# Altium footprint library Others.PcbLib: 19 footprints (part 1 of 2)
Each footprint in its own frame and in the unit in brackets; x right, y up, seen from the top. Pads: shape width x height; smd on the part's side, far side on the other; paste and mask are expansions set on the pad; w line width, h text height; cw(c..) or ccw(c..) is an arc to the next point about the centre after c.
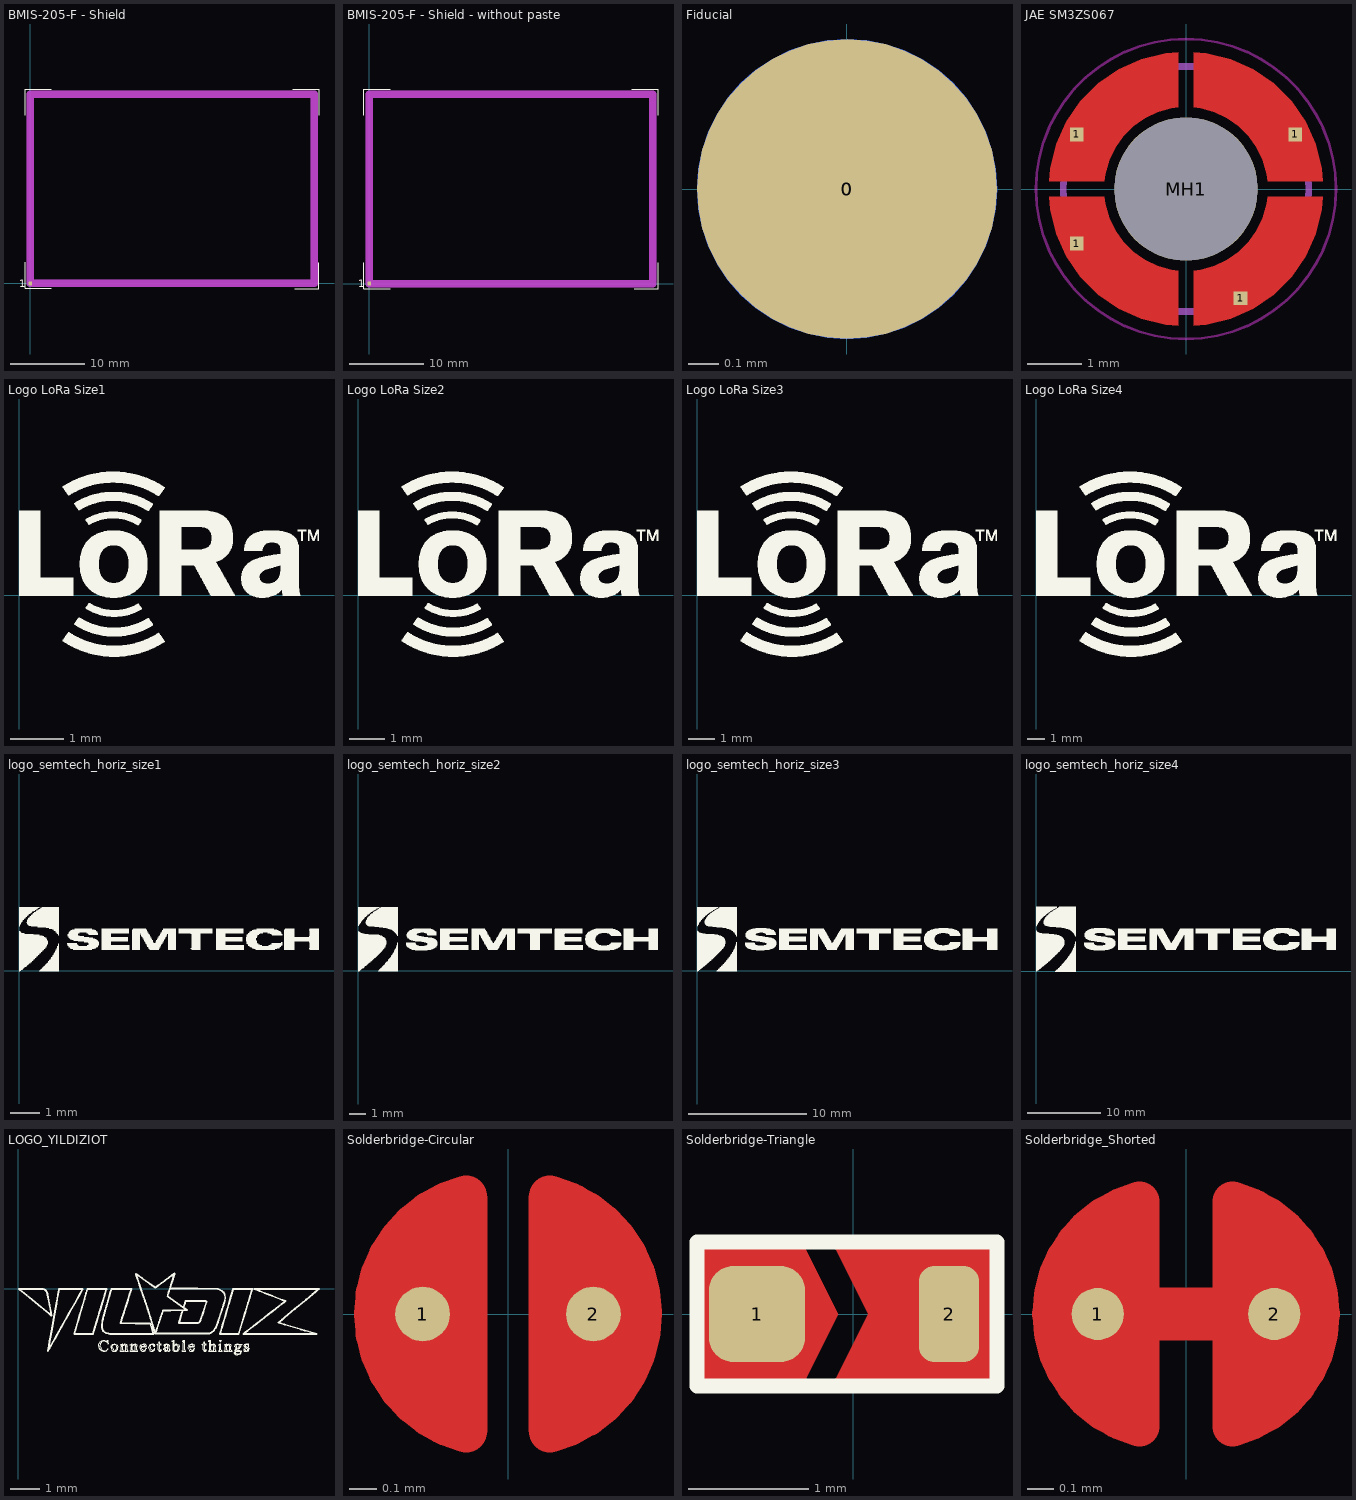
[diagram p0: the footprints below, top view; thin cyan lines are the x and y axes]

## BMIS-205-F - Shield [mm] "BMIS-205-F EMI Gasket - Standard Surface Mount Shields -  Laird Technologies"
height 6.5
pads (1):
  rect 0.5x0.5 smd paste-1 mask+0.05: 1(0,0)
Top Overlay:
  lines w0.1: -0.65,2.85 -0.65,-0.65 2.85,-0.65 ; -0.65,22.55 -0.65,26.05 2.85,26.05 ; 35.25,26.05 38.75,26.05 38.75,22.55 ; 35.5,-0.7 38.7,-0.7 38.7,2.8
  text "1" at -1.5,-0.5 h1
Top Paste:
  region: 20.65,-0.4 17.35,-0.4 17.35,0.6 20.65,0.6
  region: 32.65,-0.4 29.35,-0.4 29.35,0.6 32.65,0.6
  region: 26.65,-0.4 23.35,-0.4 23.35,0.6 26.65,0.6
  region: 14.65,-0.4 11.35,-0.4 11.35,0.6 14.65,0.6
  region: 8.65,-0.4 5.35,-0.4 5.35,0.6 8.65,0.6
  region: 38.4,-0.4 35.35,-0.4 35.35,0.6 38.4,0.6
  region: 2.65,-0.4 -0.4,-0.4 -0.4,0.6 2.65,0.6
  region: 2.65,24.8 -0.4,24.8 -0.4,25.8 2.65,25.8
  region: 38.4,24.8 35.35,24.8 35.35,25.8 38.4,25.8
  region: 8.65,24.8 5.35,24.8 5.35,25.8 8.65,25.8
  region: 14.65,24.8 11.35,24.8 11.35,25.8 14.65,25.8
  region: 26.65,24.8 23.35,24.8 23.35,25.8 26.65,25.8
  region: 32.65,24.8 29.35,24.8 29.35,25.8 32.65,25.8
  region: 20.65,24.8 17.35,24.8 17.35,25.8 20.65,25.8
  region: -0.4,22.7 -0.4,25.8 0.6,25.8 0.6,22.7
  region: -0.4,16.75 -0.4,20.05 0.6,20.05 0.6,16.75
  region: -0.4,10.75 -0.4,14.05 0.6,14.05 0.6,10.75
  region: -0.4,5.35 -0.4,8.05 0.6,8.05 0.6,5.35
  region: -0.4,-0.4 -0.4,2.65 0.6,2.65 0.6,-0.4
  region: 37.5,-0.4 37.5,2.65 38.5,2.65 38.5,-0.4
  region: 37.5,5.35 37.5,8.05 38.5,8.05 38.5,5.35
  region: 37.5,10.75 37.5,14.05 38.5,14.05 38.5,10.75
  region: 37.5,16.75 37.5,20.05 38.5,20.05 38.5,16.75
  region: 37.5,22.7 37.5,25.8 38.5,25.8 38.5,22.7
Top Solder:
  region: 37.5,22.7 37.5,25.8 38.5,25.8 38.5,22.7
  region: 37.5,16.75 37.5,20.05 38.5,20.05 38.5,16.75
  region: 37.5,10.75 37.5,14.05 38.5,14.05 38.5,10.75
  region: 37.5,5.35 37.5,8.05 38.5,8.05 38.5,5.35
  region: 37.5,-0.4 37.5,2.65 38.5,2.65 38.5,-0.4
  region: -0.4,-0.4 -0.4,2.65 0.6,2.65 0.6,-0.4
  region: -0.4,5.35 -0.4,8.05 0.6,8.05 0.6,5.35
  region: -0.4,10.75 -0.4,14.05 0.6,14.05 0.6,10.75
  region: -0.4,16.75 -0.4,20.05 0.6,20.05 0.6,16.75
  region: -0.4,22.7 -0.4,25.8 0.6,25.8 0.6,22.7
  region: 20.65,24.8 17.35,24.8 17.35,25.8 20.65,25.8
  region: 32.65,24.8 29.35,24.8 29.35,25.8 32.65,25.8
  region: 26.65,24.8 23.35,24.8 23.35,25.8 26.65,25.8
  region: 14.65,24.8 11.35,24.8 11.35,25.8 14.65,25.8
  region: 8.65,24.8 5.35,24.8 5.35,25.8 8.65,25.8
  region: 38.4,24.8 35.35,24.8 35.35,25.8 38.4,25.8
  region: 2.65,24.8 -0.4,24.8 -0.4,25.8 2.65,25.8
  region: 2.65,-0.4 -0.4,-0.4 -0.4,0.6 2.65,0.6
  region: 38.4,-0.4 35.35,-0.4 35.35,0.6 38.4,0.6
  region: 8.65,-0.4 5.35,-0.4 5.35,0.6 8.65,0.6
  region: 14.65,-0.4 11.35,-0.4 11.35,0.6 14.65,0.6
  region: 26.65,-0.4 23.35,-0.4 23.35,0.6 26.65,0.6
  region: 32.65,-0.4 29.35,-0.4 29.35,0.6 32.65,0.6
  region: 20.65,-0.4 17.35,-0.4 17.35,0.6 20.65,0.6
Top Courtyard keep-out:
  lines w1: 0,0 38.1,0 38.1,25.4 0,25.4 0,0

## BMIS-205-F - Shield - without paste [mm] "BMIS-205-F EMI Gasket - Standard Surface Mount Shields -  Laird Technologies"
height 6.5
pads (1):
  rect 0.5x0.5 smd paste-1 mask+0.05: 1(0,0)
Top Overlay:
  lines w0.1: -0.7,2.8 -0.7,-0.7 2.8,-0.7 ; -0.7,22.6 -0.7,26.1 2.8,26.1 ; 35.3,26.1 38.8,26.1 38.8,22.6 ; 35.6,-0.7 38.8,-0.7 38.8,2.8
  text "1" at -1.5,-0.5 h1
Top Solder:
  region: 20.65,-0.4 17.35,-0.4 17.35,0.6 20.65,0.6
  region: 32.65,-0.4 29.35,-0.4 29.35,0.6 32.65,0.6
  region: 26.65,-0.4 23.35,-0.4 23.35,0.6 26.65,0.6
  region: 14.65,-0.4 11.35,-0.4 11.35,0.6 14.65,0.6
  region: 8.65,-0.4 5.35,-0.4 5.35,0.6 8.65,0.6
  region: 38.4,-0.4 35.35,-0.4 35.35,0.6 38.4,0.6
  region: 2.65,-0.4 -0.4,-0.4 -0.4,0.6 2.65,0.6
  region: 2.65,24.8 -0.4,24.8 -0.4,25.8 2.65,25.8
  region: 38.4,24.8 35.35,24.8 35.35,25.8 38.4,25.8
  region: 8.65,24.8 5.35,24.8 5.35,25.8 8.65,25.8
  region: 14.65,24.8 11.35,24.8 11.35,25.8 14.65,25.8
  region: 26.65,24.8 23.35,24.8 23.35,25.8 26.65,25.8
  region: 32.65,24.8 29.35,24.8 29.35,25.8 32.65,25.8
  region: 20.65,24.8 17.35,24.8 17.35,25.8 20.65,25.8
  region: -0.4,22.7 -0.4,25.8 0.6,25.8 0.6,22.7
  region: -0.4,16.75 -0.4,20.05 0.6,20.05 0.6,16.75
  region: -0.4,10.75 -0.4,14.05 0.6,14.05 0.6,10.75
  region: -0.4,5.35 -0.4,8.05 0.6,8.05 0.6,5.35
  region: -0.4,-0.4 -0.4,2.65 0.6,2.65 0.6,-0.4
  region: 37.5,-0.4 37.5,2.65 38.5,2.65 38.5,-0.4
  region: 37.5,5.35 37.5,8.05 38.5,8.05 38.5,5.35
  region: 37.5,10.75 37.5,14.05 38.5,14.05 38.5,10.75
  region: 37.5,16.75 37.5,20.05 38.5,20.05 38.5,16.75
  region: 37.5,22.7 37.5,25.8 38.5,25.8 38.5,22.7
Top Courtyard keep-out:
  lines w1: 0,0 0,25.4 38.1,25.4 38.1,0 0,0

## Fiducial [mm]
pads (2):
  round 1 smd paste-10 mask+0.5: 0(0,0)
  round 1 smd far side paste-10 mask+0.5: 0(0,0)

## JAE SM3ZS067 [mm]
pads (5):
  rect 0.25x0.25 smd paste+0 mask+0: 1(-2,-1) 1(-2,1) 1(1,-2) 1(2,1)
  round 2.63 hole 2.63 unplated: MH1(0,0)
Top Layer:
  region: 0.145,1.496 0.145,2.505 0.374,2.492 0.818,2.383 1.235,2.195 1.612,1.936 1.936,1.612 2.195,1.235 2.383,0.818 2.492,0.374 2.505,0.145 1.496,0.145 1.478,0.273 1.41,0.523 1.3,0.757 1.151,0.969 0.969,1.151 0.757,1.3 0.523,1.41 0.273,1.478
  region: 1.496,-0.145 2.505,-0.145 2.492,-0.374 2.383,-0.818 2.195,-1.235 1.936,-1.612 1.612,-1.936 1.235,-2.195 0.818,-2.383 0.374,-2.492 0.145,-2.505 0.145,-1.496 0.273,-1.478 0.523,-1.41 0.757,-1.3 0.969,-1.151 1.151,-0.969 1.3,-0.757 1.41,-0.523 1.478,-0.273
  region: -0.145,-1.496 -0.145,-2.505 -0.374,-2.492 -0.818,-2.383 -1.235,-2.195 -1.612,-1.936 -1.936,-1.612 -2.195,-1.235 -2.383,-0.818 -2.492,-0.374 -2.505,-0.145 -1.496,-0.145 -1.478,-0.273 -1.41,-0.523 -1.3,-0.757 -1.151,-0.969 -0.969,-1.151 -0.757,-1.3 -0.523,-1.41 -0.273,-1.478
  region: -1.496,0.145 -2.505,0.145 -2.492,0.374 -2.383,0.818 -2.195,1.235 -1.936,1.612 -1.612,1.936 -1.235,2.195 -0.818,2.383 -0.374,2.492 -0.145,2.505 -0.145,1.496 -0.273,1.478 -0.523,1.41 -0.757,1.3 -0.969,1.151 -1.151,0.969 -1.3,0.757 -1.41,0.523 -1.478,0.273
Top Layer keep-out:
  circle w0.05: c0,0 r2.75
Top Paste:
  region: 0.145,1.496 0.145,2.505 0.374,2.492 0.818,2.383 1.235,2.195 1.612,1.936 1.936,1.612 2.195,1.235 2.383,0.818 2.492,0.374 2.505,0.145 1.496,0.145 1.478,0.273 1.41,0.523 1.3,0.757 1.151,0.969 0.969,1.151 0.757,1.3 0.523,1.41 0.273,1.478
  region: 1.496,-0.145 2.505,-0.145 2.492,-0.374 2.383,-0.818 2.195,-1.235 1.936,-1.612 1.612,-1.936 1.235,-2.195 0.818,-2.383 0.374,-2.492 0.145,-2.505 0.145,-1.496 0.273,-1.478 0.523,-1.41 0.757,-1.3 0.969,-1.151 1.151,-0.969 1.3,-0.757 1.41,-0.523 1.478,-0.273
  region: -0.145,-1.496 -0.145,-2.505 -0.374,-2.492 -0.818,-2.383 -1.235,-2.195 -1.612,-1.936 -1.936,-1.612 -2.195,-1.235 -2.383,-0.818 -2.492,-0.374 -2.505,-0.145 -1.496,-0.145 -1.478,-0.273 -1.41,-0.523 -1.3,-0.757 -1.151,-0.969 -0.969,-1.151 -0.757,-1.3 -0.523,-1.41 -0.273,-1.478
  region: -1.496,0.145 -2.505,0.145 -2.492,0.374 -2.383,0.818 -2.195,1.235 -1.936,1.612 -1.612,1.936 -1.235,2.195 -0.818,2.383 -0.374,2.492 -0.145,2.505 -0.145,1.496 -0.273,1.478 -0.523,1.41 -0.757,1.3 -0.969,1.151 -1.151,0.969 -1.3,0.757 -1.41,0.523 -1.478,0.273
Top Solder:
  region: 0.045,1.395 0.045,2.605 0.296,2.6 0.786,2.495 1.247,2.298 1.663,2.018 2.018,1.663 2.298,1.247 2.495,0.786 2.6,0.296 2.605,0.045 1.395,0.045 1.384,0.176 1.326,0.432 1.222,0.672 1.074,0.889 0.889,1.074 0.672,1.222 0.432,1.326 0.176,1.384
  region: 1.395,-0.045 2.605,-0.045 2.6,-0.296 2.495,-0.786 2.298,-1.247 2.018,-1.663 1.663,-2.018 1.247,-2.298 0.786,-2.495 0.296,-2.6 0.045,-2.605 0.045,-1.395 0.176,-1.384 0.432,-1.326 0.672,-1.222 0.889,-1.074 1.074,-0.889 1.222,-0.672 1.326,-0.432 1.384,-0.176
  region: -0.045,-1.395 -0.045,-2.605 -0.296,-2.6 -0.786,-2.495 -1.247,-2.298 -1.663,-2.018 -2.018,-1.663 -2.298,-1.247 -2.495,-0.786 -2.6,-0.296 -2.605,-0.045 -1.395,-0.045 -1.384,-0.176 -1.326,-0.432 -1.222,-0.672 -1.074,-0.889 -0.889,-1.074 -0.672,-1.222 -0.432,-1.326 -0.176,-1.384
  region: -1.395,0.045 -2.605,0.045 -2.6,0.296 -2.495,0.786 -2.298,1.247 -2.018,1.663 -1.663,2.018 -1.247,2.298 -0.786,2.495 -0.296,2.6 -0.045,2.605 -0.045,1.395 -0.176,1.384 -0.432,1.326 -0.672,1.222 -0.889,1.074 -1.074,0.889 -1.222,0.672 -1.326,0.432 -1.384,0.176
Dimensions:
  circle w0.127: c0,0 r2.25
3D body "JAE SM3ZS067U410.step": height 3.1, standoff -0.7, extent -2.25,-2.25 2.25,2.25

## Logo LoRa Size1 [mm] "Logo LoRa Size1 - Top Overlay"
Top Overlay:
  drawing of 2375 lines, arcs and shapes, not listed

## Logo LoRa Size2 [mm] "Logo LoRa Size2 - Top Overlay"
Top Overlay:
  drawing of 2374 lines, arcs and shapes, not listed

## Logo LoRa Size3 [mm] "Logo LoRa Size3 - Top Overlay"
Top Overlay:
  drawing of 2375 lines, arcs and shapes, not listed

## Logo LoRa Size4 [mm] "Logo LoRa Size4 - Top Overlay"
Top Overlay:
  drawing of 2375 lines, arcs and shapes, not listed

## logo_semtech_horiz_size1 [mm] "Logo semtech horizontal - size1 - S"
Top Overlay:
  drawing of 453 lines, arcs and shapes, not listed

## logo_semtech_horiz_size2 [mm] "Logo semtech horizontal - size2 - M"
Top Overlay:
  drawing of 790 lines, arcs and shapes, not listed

## logo_semtech_horiz_size3 [mm] "Logo semtech horizontal - size3 - L"
Top Overlay:
  drawing of 1137 lines, arcs and shapes, not listed

## logo_semtech_horiz_size4 [mm] "Logo semtech horizontal - size4 - XL"
Top Overlay:
  drawing of 1852 lines, arcs and shapes, not listed

## LOGO_YILDIZIOT [mm] "YýLDýZ IoT Logo"
Top Overlay:
  drawing of 2283 lines, arcs and shapes, not listed

## Solderbridge-Circular [mm]
pads (2):
  round 0.2 smd paste-10: 1(-0.312,0) 2(0.312,0)
Top Layer:
  region: -0.077,-0.432 -0.152,-0.505 -0.271,-0.467 -0.335,-0.424 -0.409,-0.351 -0.462,-0.292 -0.521,-0.193 -0.549,-0.099 -0.544,0.122 -0.518,0.193 -0.434,0.33 -0.351,0.411 -0.259,0.469 -0.157,0.5 -0.107,0.483 -0.077,0.43
  region: 0.077,0.432 0.152,0.505 0.271,0.467 0.335,0.424 0.409,0.351 0.462,0.292 0.521,0.193 0.549,0.099 0.544,-0.122 0.518,-0.193 0.434,-0.33 0.351,-0.411 0.259,-0.469 0.157,-0.5 0.107,-0.483 0.077,-0.43
  lines w0.152: -0.153,-0.431 cw(c-0.042,0) -0.487,0 cw(c-0.042,0) -0.287,0.371 cw(c-0.042,0) -0.153,0.431 ; 0.153,-0.431 ccw(c0.042,0) 0.461,0.149 ccw(c0.042,0) 0.153,0.431
Top Solder:
  circle w0.61: c-0.003,0 r0.279

## Solderbridge-Triangle [mm]
pads (2):
  rrect50% 0.8x0.8 smd paste-10: 1(-0.8,0)
  rrect50% 0.5x0.8 smd paste-10: 2(0.8,0)
Top Layer:
  region: -1.3,0.6 -0.425,0.6 -0.125,0 -0.425,-0.6 -1.3,-0.6
  region: 1.2,-0.6 -0.175,-0.6 0.125,0 -0.175,0.6 1.2,0.6
Top Overlay:
  lines w0.127: -1.3,-0.6 -1.3,0.6 1.2,0.6 1.2,-0.6 -1.3,-0.6

## Solderbridge_Shorted [mm]
pads (2):
  round 0.2 smd paste-10: 1(-0.338,0) 2(0.338,0)
Top Layer:
  region: 0.102,0.432 0.178,0.505 0.296,0.467 0.361,0.424 0.434,0.351 0.488,0.292 0.546,0.193 0.574,0.099 0.569,-0.122 0.544,-0.193 0.46,-0.33 0.376,-0.411 0.284,-0.469 0.183,-0.5 0.132,-0.483 0.102,-0.43
  region: -0.102,-0.432 -0.178,-0.505 -0.296,-0.467 -0.361,-0.424 -0.434,-0.351 -0.488,-0.292 -0.546,-0.193 -0.574,-0.099 -0.569,0.122 -0.544,0.193 -0.46,0.33 -0.376,0.411 -0.284,0.469 -0.183,0.5 -0.132,0.483 -0.102,0.43
  lines w0.152: -0.178,-0.431 cw(c-0.068,0) -0.178,0.431 ; 0.178,-0.431 ccw(c0.068,0) 0.178,0.431
  lines w0.203: -0.338,0 0.338,0
Top Solder:
  circle w0.61: c-0.028,0 r0.279
  circle w0.61: c0.028,0 r0.279